# Altium footprint library SOT23-5(COVER).PcbLib: 1 footprints
Each footprint in its own frame and in the unit in brackets; x right, y up, seen from the top. Pads: shape width x height; smd on the part's side, far side on the other; paste and mask are expansions set on the pad; w line width, h text height; cw(c..) or ccw(c..) is an arc to the next point about the centre after c.
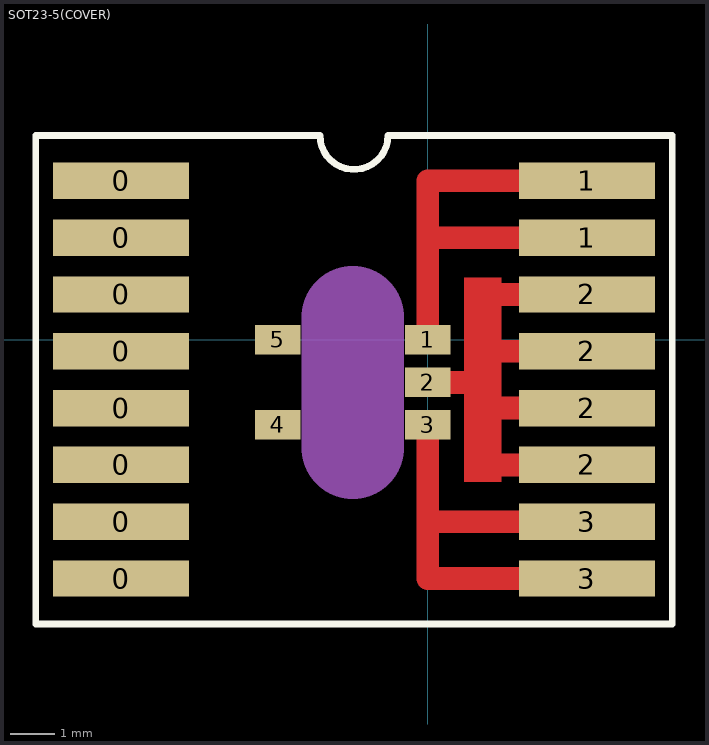
[diagram p0: the footprint, top view; thin cyan lines are the x and y axes]

## SOT23-5(COVER) [mil]
pads (21):
  rect 120x32 smd: 0(-270,-210) 0(-270,-160) 0(-270,-110) 0(-270,-60) 0(-270,-10) 0(-270,40) 0(-270,90) 0(-270,140) 1(140,90) 1(140,140) 2(140,-110) 2(140,-60) 2(140,-10) 2(140,40) 3(140,-210) 3(140,-160)
  rect 40x26 smd: 1(0,0) 2(0,-37.4) 3(0,-74.8) 4(-132,-74.8) 5(-132,0)
TopLayer:
  rectangle: 32,-125 65,55
  lines w20: 0,-160 140,-160 ; 0,-74.8 0,-210 140,-210 ; 0,-37.4 47.6,-37.4 ; 0,0 0,140 140,140 ; 0,90 140,90 ; 50,-110 140,-110 ; 50,-60 140,-60 ; 50,-10 140,-10 ; 50,40 140,40
TopOverlay:
  lines w6: -345,-250 -345,180 -95,180 ccw(c-65,180) -35,180 215,180 215,-250 -345,-250
Mechanical1:
  lines w90: -66,-95 -66,20